# Altium schematic symbol library TNPW02014K99BEED.SchLib: 2 symbols
Pins are listed as number, name and electrical type; pins without a type are passive.

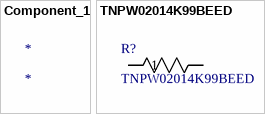
[diagram p0: symbols Component_1 to TNPW02014K99BEED]

## Component_1
designator *

## TNPW02014K99BEED
designator R?
No Description Available; Mfr_Name: Vishay; Copyright: Copyright (C) 2022 Ultra Librarian. All rights reserved.; Manufacturer_Part_Number: TNPW02014K99BEED; Digi-Key_Part_Number_1: 541-TNPW02014K99BEEDTR-ND; Digi-Key_Part_Number_2: 541-TNPW02014K99BEEDCT-ND; RefDes: RefDes; Type: DEV
footprint RES_TNPW0201_VIS
pins: 1, 2